# Altium schematic symbol library FDPF18N20FT.SchLib: 1 symbol
Pins are listed as number, name and electrical type; pins without a type are passive.

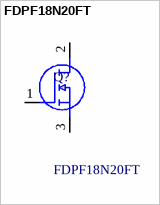
[diagram p0: symbol FDPF18N20FT]

## FDPF18N20FT
designator Q?
N-Channel 200 V 18A (Tc) 41W (Tc) Through Hole TO-220F-3; Manufacturer_Name: onsemi; Geometry.Height: 4.9mm; Manufacturer_Part_Number: FDPF18N20FT; Mouser Part Number: 512-FDPF18N20FT; Mouser Price/Stock: https://www.mouser.co.uk/ProductDetail/ON-Semiconductor-Fairchild/FDPF18N20FT/?qs=xpKATA2oto6WLYLq61t6YA%3D%3D; Arrow Part Number: *; Arrow Price/Stock: *; Datasheet Link: https://www.onsemi.com/download/data-sheet/pdf/fdpf18n20ft-d.pdf
footprint TO254P490X1016X1970-3P
pins: 1 G, 2 D, 3 S